# EAGLE library part PINHEAD_PINHD-2X18 (library elcanoParts)
PIN HEADER
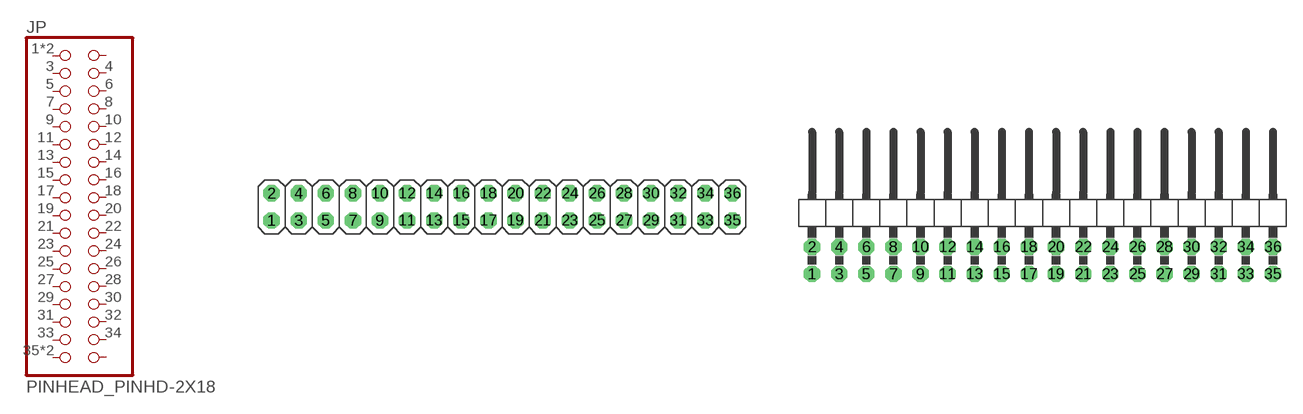
[diagram p6: symbol with the pads of PINHEAD_2X18; footprints PINHEAD_2X18, PINHEAD_2X18/90]

Designator prefix JP

## PINHEAD_PINHD-2X18  [PINHEAD_2X18]
1  GND1  pas
2  GND1  pas
3  53  pas
4  52  pas
5  51  pas
6  50  pas
7  49  pas
8  48  pas
9  47  pas
10  46  pas
11  45  pas
12  44  pas
13  43  pas
14  42  pas
15  41  pas
16  40  pas
17  39  pas
18  38  pas
19  37  pas
20  36  pas
21  35  pas
22  34  pas
23  33  pas
24  32  pas
25  31  pas
26  30  pas
27  29  pas
28  28  pas
29  27  pas
30  26  pas
31  25  pas
32  24  pas
33  23  pas
34  22  pas
35  5V1  pas
36  5V1  pas

## PINHEAD_PINHD-2X18/90  [PINHEAD_2X18/90]
1  GND1  pas
2  GND2  pas
3  53  pas
4  52  pas
5  51  pas
6  50  pas
7  49  pas
8  48  pas
9  47  pas
10  46  pas
11  45  pas
12  44  pas
13  43  pas
14  42  pas
15  41  pas
16  40  pas
17  39  pas
18  38  pas
19  37  pas
20  36  pas
21  35  pas
22  34  pas
23  33  pas
24  32  pas
25  31  pas
26  30  pas
27  29  pas
28  28  pas
29  27  pas
30  26  pas
31  25  pas
32  24  pas
33  23  pas
34  22  pas
35  5V1  pas
36  5V2  pas

## Footprint PINHEAD_2X18 (pad centres in mm)
PIN HEADER
drill 1.016 octagon: 1 -21.59,-1.27; 2 -21.59,1.27; 3 -19.05,-1.27; 4 -19.05,1.27; 5 -16.51,-1.27; 6 -16.51,1.27; 7 -13.97,-1.27; 8 -13.97,1.27; 9 -11.43,-1.27; 10 -11.43,1.27; 11 -8.89,-1.27; 12 -8.89,1.27; 13 -6.35,-1.27; 14 -6.35,1.27; 15 -3.81,-1.27; 16 -3.81,1.27; 17 -1.27,-1.27; 18 -1.27,1.27; 19 1.27,-1.27; 20 1.27,1.27; 21 3.81,-1.27; 22 3.81,1.27; 23 6.35,-1.27; 24 6.35,1.27; 25 8.89,-1.27; 26 8.89,1.27; 27 11.43,-1.27; 28 11.43,1.27; 29 13.97,-1.27; 30 13.97,1.27; 31 16.51,-1.27; 32 16.51,1.27; 33 19.05,-1.27; 34 19.05,1.27; 35 21.59,-1.27; 36 21.59,1.27

## Footprint PINHEAD_2X18/90 (pad centres in mm)
PIN HEADER
drill 1.016 octagon: 1 -21.59,-6.35; 2 -21.59,-3.81; 3 -19.05,-6.35; 4 -19.05,-3.81; 5 -16.51,-6.35; 6 -16.51,-3.81; 7 -13.97,-6.35; 8 -13.97,-3.81; 9 -11.43,-6.35; 10 -11.43,-3.81; 11 -8.89,-6.35; 12 -8.89,-3.81; 13 -6.35,-6.35; 14 -6.35,-3.81; 15 -3.81,-6.35; 16 -3.81,-3.81; 17 -1.27,-6.35; 18 -1.27,-3.81; 19 1.27,-6.35; 20 1.27,-3.81; 21 3.81,-6.35; 22 3.81,-3.81; 23 6.35,-6.35; 24 6.35,-3.81; 25 8.89,-6.35; 26 8.89,-3.81; 27 11.43,-6.35; 28 11.43,-3.81; 29 13.97,-6.35; 30 13.97,-3.81; 31 16.51,-6.35; 32 16.51,-3.81; 33 19.05,-6.35; 34 19.05,-3.81; 35 21.59,-6.35; 36 21.59,-3.81